# Altium footprint library ZPWL.PcbLib: 168 footprints (part 7 of 11)
Each footprint in its own frame and in the unit in brackets; x right, y up, seen from the top. Pads: shape width x height; smd on the part's side, far side on the other; paste and mask are expansions set on the pad; w line width, h text height; cw(c..) or ccw(c..) is an arc to the next point about the centre after c.
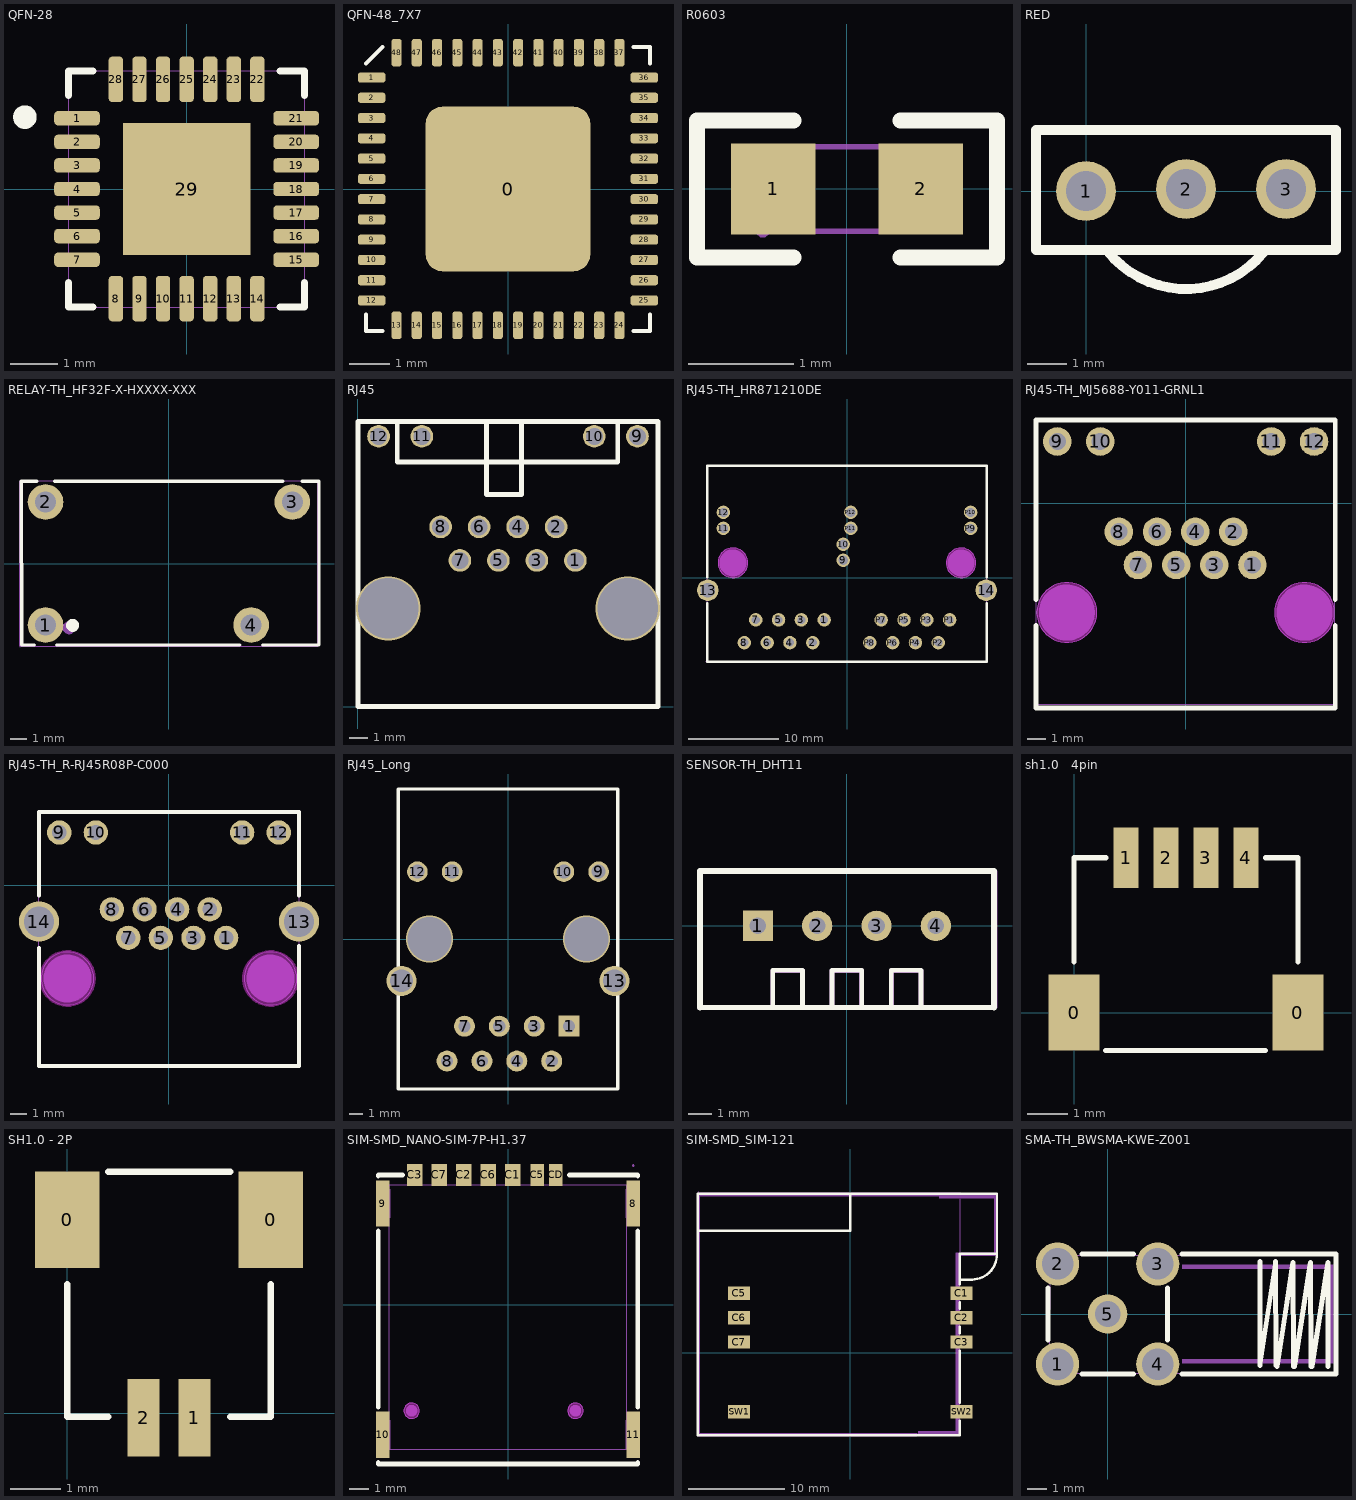
[diagram p6: the footprints below, top view; thin cyan lines are the x and y axes]

## QFN-28 [mil]
pads (29):
  rrect50% 38x12 smd mask+5: 1(-91.5,59.06) 2(-91.5,39.37) 3(-91.5,19.68) 4(-91.5,0) 5(-91.5,-19.68) 6(-91.5,-39.37) 7(-91.5,-59.06) 15(91.5,-59.06) 16(91.5,-39.37) 17(91.5,-19.68) 18(91.5,0) 19(91.5,19.68) 20(91.5,39.37) 21(91.5,59.06)
  rrect50% 12x38 smd mask+5: 8(-59.06,-91.5) 9(-39.37,-91.5) 10(-19.68,-91.5) 11(0,-91.5) 12(19.68,-91.5) 13(39.37,-91.5) 14(59.06,-91.5) 22(59.06,91.5) 23(39.37,91.5) 24(19.68,91.5) 25(0,91.5) 26(-19.68,91.5) 27(-39.37,91.5) 28(-59.06,91.5)
  rect 106.3x110.24 smd: 29(0,0)
Top Overlay:
  circle w9.84: c-135,60 r4.92
  lines w6: -98.5,-78.16 -98.5,-98.5 -78.16,-98.5 ; -98.5,78.16 -98.5,98.5 -78.16,98.5 ; 78.16,-98.5 98.5,-98.5 98.5,-78.16 ; 78.16,98.5 98.5,98.5 98.5,78.16
Mechanical 1:
  lines w0: -98.5,-98.5 -98.5,98.5 98.5,98.5 98.5,-98.5 -98.5,-98.5 ; -98.5,-65.06 -98.5,-53.06 -98.5,-65.06 ; -98.5,-45.37 -98.5,-33.37 -98.5,-45.37 ; -98.5,-25.68 -98.5,-13.69 -98.5,-25.68 ; -98.5,-6 -98.5,6 -98.5,-6 ; -98.5,13.69 -98.5,25.68 -98.5,13.69 ; -98.5,33.37 -98.5,45.37 -98.5,33.37 ; -98.5,53.06 -98.5,65.06 -98.5,53.06 ; -65.06,-98.5 -53.06,-98.5 -65.06,-98.5 ; -65.06,98.5 -53.06,98.5 -65.06,98.5 ; -45.37,-98.5 -33.37,-98.5 -45.37,-98.5 ; -45.37,98.5 -33.37,98.5 -45.37,98.5 ; -25.68,-98.5 -13.69,-98.5 -25.68,-98.5 ; -25.68,98.5 -13.69,98.5 -25.68,98.5 ; -6,-98.5 6,-98.5 -6,-98.5 ; -6,98.5 6,98.5 -6,98.5 ; 13.69,-98.5 25.68,-98.5 13.69,-98.5 ; 13.69,98.5 25.68,98.5 13.69,98.5 ; 33.37,-98.5 45.37,-98.5 33.37,-98.5 ; 33.37,98.5 45.37,98.5 33.37,98.5 ; 53.06,-98.5 65.06,-98.5 53.06,-98.5 ; 53.06,98.5 65.06,98.5 53.06,98.5 ; 98.5,-65.06 98.5,-53.06 98.5,-65.06 ; 98.5,-45.37 98.5,-33.37 98.5,-45.37 ; 98.5,-25.68 98.5,-13.69 98.5,-25.68 ; 98.5,-6 98.5,6 98.5,-6 ; 98.5,13.69 98.5,25.68 98.5,13.69 ; 98.5,33.37 98.5,45.37 98.5,33.37 ; 98.5,53.06 98.5,65.06 98.5,53.06
3D body "321.stp": height 35.43, standoff 0, extent -98.5,-98.5 98.35,98.35

## QFN-48_7X7 [mm]
pads (49):
  rrect20% 4.064x4.064 smd: 0(0,0)
  rrect50% 0.675x0.25 smd: 1(-3.363,2.75) 2(-3.363,2.25) 3(-3.363,1.75) 4(-3.363,1.25) 5(-3.363,0.75) 6(-3.363,0.25) 7(-3.363,-0.25) 8(-3.363,-0.75) 9(-3.363,-1.25) 10(-3.363,-1.75) 11(-3.363,-2.25) 12(-3.363,-2.75) 25(3.363,-2.75) 26(3.363,-2.25) 27(3.363,-1.75) 28(3.363,-1.25) 29(3.363,-0.75) 30(3.363,-0.25) 31(3.363,0.25) 32(3.363,0.75) 33(3.363,1.25) 34(3.363,1.75) 35(3.363,2.25) 36(3.363,2.75)
  rrect50% 0.25x0.675 smd: 13(-2.75,-3.363) 14(-2.25,-3.363) 15(-1.75,-3.363) 16(-1.25,-3.363) 17(-0.75,-3.363) 18(-0.25,-3.363) 19(0.25,-3.363) 20(0.75,-3.363) 21(1.25,-3.363) 22(1.75,-3.363) 23(2.25,-3.363) 24(2.75,-3.363) 37(2.75,3.363) 38(2.25,3.363) 39(1.75,3.363) 40(1.25,3.363) 41(0.75,3.363) 42(0.25,3.363) 43(-0.25,3.363) 44(-0.75,3.363) 45(-1.25,3.363) 46(-1.75,3.363) 47(-2.25,3.363) 48(-2.75,3.363)
Top Overlay:
  lines w0.1: -3.5,-3.1 -3.5,-3.5 -3.1,-3.5 ; -3.5,3.1 -3.1,3.5 ; 3.1,-3.5 3.5,-3.5 3.5,-3.1 ; 3.1,3.5 3.5,3.5 3.5,3.1
3D body: height 1, standoff 0.05, extent -3.5,-3.5 3.5,3.5

## R0603 [mm]
pads (2):
  rect 0.8x0.864 smd paste-100 mask+0.051: 1(-0.7,0) 2(0.7,0)
Top Overlay:
  lines w0.152: -0.51,-0.65 -1.424,-0.65 -1.424,0.65 -0.51,0.65 ; 0.51,-0.65 1.424,-0.65 1.424,0.65 0.51,0.65
Top Paste:
  region: 0.264,0.154 0.264,-0.122 0.538,-0.416 1.042,-0.416 1.106,-0.352 1.106,0.384 1.042,0.448 0.538,0.448
  region: -0.252,0.143 -0.252,-0.134 -0.526,-0.427 -1.029,-0.427 -1.093,-0.363 -1.093,0.373 -1.029,0.437 -0.526,0.437
Mechanical 6:
  lines w0.051: -0.8,-0.4 -0.8,0.4 0.8,0.4 0.8,-0.4 -0.8,-0.4
Mechanical 8:
  region: -0.74,-0.4 -0.74,-0.425 -0.775,-0.46 -0.825,-0.46 -0.86,-0.425 -0.86,-0.4 -0.86,-0.375 -0.825,-0.34 -0.775,-0.34 -0.74,-0.375 -0.74,-0.4
Mechanical 9:
  region: -0.5,-0.4 -0.8,-0.4 -0.8,0.4 -0.5,0.4
  region: 0.8,-0.4 0.5,-0.4 0.5,0.4 0.8,0.4
3D body "0603L.STEP": height 2.1, standoff 1.6, extent -0.811,-0.389 0.789,0.411

## RED [mil]
pads (3):
  round 60 hole 40: 1(0,0) 2(100,2) 3(200,2)
Top Overlay:
  lines w10: 20.81,-59.06 ccw(c100,2) 177.99,-60.59 ; -50,-59 250,-59 250,61 -50,61 -50,-59

## RELAY-TH_HF32F-X-HXXXX-XXX [mm]
pads (4):
  round 2.2 hole 1.3 paste+0 mask+0.05: 1(-7.62,-3.8) 2(-7.62,3.8) 3(7.62,3.8) 4(5.08,-3.8)
Top Overlay:
  circle w0.4: c-5.95,-3.82 r0.2
  lines w0.2: -9.11,-5.04 -8.313,-5.03 ; -9.091,-5.03 -9.12,5.08 -8.17,5.08 ; -7.07,5.08 7.024,5.08 ; -6.927,-5.03 4.387,-5.03 ; 5.773,-5.03 9.27,-5.03 9.27,5.08 8.216,5.08
Mechanical 6:
  circle w0.4: c-6.17,-3.97 r0.2
Mechanical 15:
  region: -9.14,-5.1 -9.14,-5.075 -9.175,-5.04 -9.225,-5.04 -9.26,-5.075 -9.26,-5.1 -9.26,-5.125 -9.225,-5.16 -9.175,-5.16 -9.14,-5.125
  region: -7.845,-3.585 -7.395,-3.585 -7.395,-4.035 -7.845,-4.035
  region: -7.845,4.015 -7.395,4.015 -7.395,3.565 -7.845,3.565
  region: 7.47,4.2 7.77,4.2 7.77,3.4 7.47,3.4
  region: 4.93,-3.4 5.23,-3.4 5.23,-4.2 4.93,-4.2
  lines w0.051: -9.2,-5.1 -9.2,5.1 9.2,5.1 9.2,-5.1 -9.2,-5.1
3D body "HF32F.STEP": height 17.3, standoff -1.9, extent -9.2,-5.13 9.2,5.08

## RJ45 [mm]
pads (12):
  round 1.2 hole 0.9: 1(11.545,7.765) 2(10.525,9.545) 3(9.505,7.765) 4(8.485,9.545) 5(7.465,7.765) 6(6.445,9.545) 7(5.425,7.765) 8(4.405,9.545) 9(14.835,14.345) 10(12.547,14.345) 11(3.407,14.345) 12(1.115,14.345)
via 1.625,5.225 diameter 3.4 hole 3.2
via 14.325,5.225 diameter 3.4 hole 3.2
Top Overlay:
  lines w0.254: 2.108,15.088 2.108,12.979 13.792,12.979 13.792,15.088 ; 6.833,15.062 6.833,11.252 8.687,11.252 8.687,15.125 ; 0.025,0.025 0.025,15.125 15.925,15.125 15.925,0.025 0.025,0.025

## RJ45-TH_HR871210DE [mm]
pads (26):
  round 1.5 hole 0.9 paste+0.051: 1(-2.54,-4.715) 2(-3.81,-7.255) 3(-5.08,-4.715) 4(-6.35,-7.255) 5(-7.62,-4.715) 6(-8.89,-7.255) 7(-10.16,-4.715) 8(-11.43,-7.255) P1(11.43,-4.715) P2(10.16,-7.255) P3(8.89,-4.715) P4(7.62,-7.255) P5(6.35,-4.715) P6(5.08,-7.255) P7(3.81,-4.715) P8(2.54,-7.255)
  round 1.5 hole 1.02 paste+0.051: 9(-0.425,1.915) 10(-0.425,3.695) 11(-13.765,5.475) 12(-13.765,7.255) P9(13.765,5.475) P10(13.765,7.255) P11(0.425,5.475) P12(0.425,7.255)
  round 2.4 hole 1.6 paste+0.051: 13(-15.5,-1.415) 14(15.5,-1.415)
Top Overlay:
  lines w0.254: -15.55,-2.845 -15.55,-9.365 15.55,-9.365 15.55,-2.845 ; -15.55,0.015 -15.55,12.435 15.55,12.435 15.55,0.015
Keep-Out Layer:
  circle w0.003: c-12.7,1.635 r1.65
  circle w0.003: c12.7,1.635 r1.65
  region: -11.05,1.635 -11.05,1.472 -11.114,1.154 -11.238,0.853 -11.418,0.583 -11.648,0.353 -11.919,0.173 -12.219,0.048 -12.538,-0.015 -12.863,-0.015 -13.181,0.048 -13.482,0.173 -13.752,0.353 -13.982,0.583 -14.162,0.853 -14.287,1.154 -14.35,1.472 -14.35,1.635 -14.35,1.798 -14.287,2.116 -14.162,2.417 -13.982,2.687 -13.752,2.917 -13.482,3.097 -13.181,3.222 -12.863,3.285 -12.538,3.285 -12.219,3.222 -11.919,3.097 -11.648,2.917 -11.418,2.687 -11.238,2.417 -11.114,2.116 -11.05,1.798
  region: -11.05,1.635 -11.05,1.472 -11.114,1.154 -11.238,0.853 -11.418,0.583 -11.648,0.353 -11.919,0.173 -12.219,0.048 -12.538,-0.015 -12.863,-0.015 -13.181,0.048 -13.482,0.173 -13.752,0.353 -13.982,0.583 -14.162,0.853 -14.287,1.154 -14.35,1.472 -14.35,1.635 -14.35,1.798 -14.287,2.116 -14.162,2.417 -13.982,2.687 -13.752,2.917 -13.482,3.097 -13.181,3.222 -12.863,3.285 -12.538,3.285 -12.219,3.222 -11.919,3.097 -11.648,2.917 -11.418,2.687 -11.238,2.417 -11.114,2.116 -11.05,1.798
  region: 14.35,1.635 14.35,1.472 14.286,1.154 14.162,0.853 13.982,0.583 13.752,0.353 13.481,0.173 13.181,0.048 12.862,-0.015 12.537,-0.015 12.219,0.048 11.918,0.173 11.648,0.353 11.418,0.583 11.238,0.853 11.113,1.154 11.05,1.472 11.05,1.635 11.05,1.798 11.113,2.116 11.238,2.417 11.418,2.687 11.648,2.917 11.918,3.097 12.219,3.222 12.537,3.285 12.862,3.285 13.181,3.222 13.481,3.097 13.752,2.917 13.982,2.687 14.162,2.417 14.286,2.116 14.35,1.798
  region: 14.35,1.635 14.35,1.472 14.286,1.154 14.162,0.853 13.982,0.583 13.752,0.353 13.481,0.173 13.181,0.048 12.862,-0.015 12.537,-0.015 12.219,0.048 11.918,0.173 11.648,0.353 11.418,0.583 11.238,0.853 11.113,1.154 11.05,1.472 11.05,1.635 11.05,1.798 11.113,2.116 11.238,2.417 11.418,2.687 11.648,2.917 11.918,3.097 12.219,3.222 12.537,3.285 12.862,3.285 13.181,3.222 13.481,3.097 13.752,2.917 13.982,2.687 14.162,2.417 14.286,2.116 14.35,1.798
Mechanical 1:
  circle w0.003: c-12.7,1.635 r1.65
  circle w0.003: c12.7,1.635 r1.65
Mechanical 2:
  circle w1.5: c12.7,1.635 r0.75
  circle w1.5: c-12.7,1.635 r0.75
Mechanical 6:
  lines w0.051: -15.55,-9.365 -15.55,12.435 15.55,12.435 15.55,-9.365 -15.55,-9.365
Mechanical 8:
  region: -15.59,-9.365 -15.59,-9.39 -15.625,-9.425 -15.675,-9.425 -15.71,-9.39 -15.71,-9.365 -15.71,-9.34 -15.675,-9.305 -15.625,-9.305 -15.59,-9.34
Mechanical 9:
  region: 2.315,-7.08 2.765,-7.08 2.765,-7.43 2.315,-7.43
  region: 3.585,-4.54 4.035,-4.54 4.035,-4.89 3.585,-4.89
  region: 4.855,-7.08 5.305,-7.08 5.305,-7.43 4.855,-7.43
  region: 6.125,-4.54 6.575,-4.54 6.575,-4.89 6.125,-4.89
  region: 7.395,-7.08 7.845,-7.08 7.845,-7.43 7.395,-7.43
  region: 8.665,-4.54 9.115,-4.54 9.115,-4.89 8.665,-4.89
  region: 9.935,-7.08 10.385,-7.08 10.385,-7.43 9.935,-7.43
  region: 11.205,-4.54 11.655,-4.54 11.655,-4.89 11.205,-4.89
  region: -11.655,-7.08 -11.205,-7.08 -11.205,-7.43 -11.655,-7.43
  region: -10.385,-4.54 -9.935,-4.54 -9.935,-4.89 -10.385,-4.89
  region: -9.115,-7.08 -8.665,-7.08 -8.665,-7.43 -9.115,-7.43
  region: -7.845,-4.54 -7.395,-4.54 -7.395,-4.89 -7.845,-4.89
  region: -6.575,-7.08 -6.125,-7.08 -6.125,-7.43 -6.575,-7.43
  region: -5.305,-4.54 -4.855,-4.54 -4.855,-4.89 -5.305,-4.89
  region: -4.035,-7.08 -3.585,-7.08 -3.585,-7.43 -4.035,-7.43
  region: -2.765,-4.54 -2.315,-4.54 -2.315,-4.89 -2.765,-4.89
  region: -15.65,-0.815 -15.35,-0.815 -15.35,-2.015 -15.65,-2.015
  region: 15.35,-0.815 15.65,-0.815 15.65,-2.015 15.35,-2.015
  region: -0.745,2.235 -0.105,2.235 -0.105,1.595 -0.745,1.595
  region: -0.745,4.015 -0.105,4.015 -0.105,3.375 -0.745,3.375
  region: 0.105,5.795 0.745,5.795 0.745,5.155 0.105,5.155
  region: 0.105,7.575 0.745,7.575 0.745,6.935 0.105,6.935
  region: -14.085,5.795 -13.445,5.795 -13.445,5.155 -14.085,5.155
  region: -14.085,7.575 -13.445,7.575 -13.445,6.935 -14.085,6.935
  region: 13.445,7.575 14.085,7.575 14.085,6.935 13.445,6.935
  region: 13.445,5.795 14.085,5.795 14.085,5.155 13.445,5.155
3D body "双网口带变压器.STEP": height 13.86, standoff -3.2, extent -15.8,-9.185 15.5,13.015

## RJ45-TH_MJ5688-Y011-GRNL1 [mil]
pads (12):
  round 60 hole 36 paste+0 mask+1.97: 1(140.55,-129.92) 2(100.39,-59.84) 3(60.23,-129.92) 4(20.08,-59.84) 5(-20.08,-129.92) 6(-60.24,-59.84) 7(-100.39,-129.92) 8(-140.55,-59.84) 9(-270.08,129.92) 10(-179.92,129.92) 11(179.92,129.92) 12(270.08,129.92)
Top Overlay:
  lines w10: -314.96,-257.39 -314.96,-430.72 314.96,-430.72 ; -314.96,-202.45 -314.96,175 315,175 315,-202.54 ; 315,-430.72 315,-257.3
Keep-Out Layer:
  circle w0.1: c-250,-229.92 r62.99
  circle w0.1: c250,-229.92 r62.99
  region: -187.01,-229.92 -187.01,-236.12 -189.43,-248.29 -194.18,-259.76 -201.07,-270.07 -209.84,-278.85 -220.16,-285.74 -231.63,-290.49 -243.8,-292.91 -256.2,-292.91 -268.37,-290.49 -279.84,-285.74 -290.15,-278.85 -298.93,-270.07 -305.82,-259.76 -310.57,-248.29 -312.99,-236.12 -312.99,-229.92 -312.99,-223.72 -310.57,-211.55 -305.82,-200.08 -298.93,-189.76 -290.15,-180.99 -279.84,-174.1 -268.37,-169.35 -256.2,-166.93 -243.8,-166.93 -231.63,-169.35 -220.16,-174.1 -209.84,-180.99 -201.07,-189.76 -194.18,-200.08 -189.43,-211.55 -187.01,-223.72
  region: -187.01,-229.92 -187.01,-236.12 -189.43,-248.29 -194.18,-259.76 -201.07,-270.07 -209.84,-278.85 -220.16,-285.74 -231.63,-290.49 -243.8,-292.91 -256.2,-292.91 -268.37,-290.49 -279.84,-285.74 -290.15,-278.85 -298.93,-270.07 -305.82,-259.76 -310.57,-248.29 -312.99,-236.12 -312.99,-229.92 -312.99,-223.72 -310.57,-211.55 -305.82,-200.08 -298.93,-189.76 -290.15,-180.99 -279.84,-174.1 -268.37,-169.35 -256.2,-166.93 -243.8,-166.93 -231.63,-169.35 -220.16,-174.1 -209.84,-180.99 -201.07,-189.76 -194.18,-200.08 -189.43,-211.55 -187.01,-223.72
  region: 312.99,-229.92 312.99,-236.12 310.57,-248.29 305.82,-259.76 298.93,-270.07 290.15,-278.85 279.84,-285.74 268.37,-290.49 256.2,-292.91 243.8,-292.91 231.63,-290.49 220.16,-285.74 209.84,-278.85 201.07,-270.07 194.18,-259.76 189.43,-248.29 187.01,-236.12 187.01,-229.92 187.01,-223.72 189.43,-211.55 194.18,-200.08 201.07,-189.76 209.84,-180.99 220.16,-174.1 231.63,-169.35 243.8,-166.93 256.2,-166.93 268.37,-169.35 279.84,-174.1 290.15,-180.99 298.93,-189.76 305.82,-200.08 310.57,-211.55 312.99,-223.72
  region: 312.99,-229.92 312.99,-236.12 310.57,-248.29 305.82,-259.76 298.93,-270.07 290.15,-278.85 279.84,-285.74 268.37,-290.49 256.2,-292.91 243.8,-292.91 231.63,-290.49 220.16,-285.74 209.84,-278.85 201.07,-270.07 194.18,-259.76 189.43,-248.29 187.01,-236.12 187.01,-229.92 187.01,-223.72 189.43,-211.55 194.18,-200.08 201.07,-189.76 209.84,-180.99 220.16,-174.1 231.63,-169.35 243.8,-166.93 256.2,-166.93 268.37,-169.35 279.84,-174.1 290.15,-180.99 298.93,-189.76 305.82,-200.08 310.57,-211.55 312.99,-223.72
Mechanical 1:
  circle w0.1: c-250,-229.92 r62.99
  circle w0.1: c250,-229.92 r62.99
Mechanical 2:
  circle w59.05: c250,-229.92 r29.53
  circle w59.05: c-250,-229.92 r29.53
Mechanical 6:
  lines w2: -313.98,-423.42 -313.98,175 313.97,175 313.97,-423.42 -313.98,-423.42
Mechanical 8:
  region: 316.34,-423.42 316.34,-424.4 314.95,-425.78 313,-425.78 311.61,-424.4 311.61,-423.42 311.61,-422.44 313,-421.06 314.95,-421.06 316.34,-422.44
Mechanical 9:
  region: 260.24,139.76 279.92,139.76 279.92,120.08 260.24,120.08
  region: 170.08,139.76 189.76,139.76 189.76,120.08 170.08,120.08
  region: -189.76,139.76 -170.08,139.76 -170.08,120.08 -189.76,120.08
  region: -279.92,139.76 -260.24,139.76 -260.24,120.08 -279.92,120.08
  region: -150.39,-50 -130.71,-50 -130.71,-69.68 -150.39,-69.68
  region: -110.23,-120.08 -90.55,-120.08 -90.55,-139.76 -110.23,-139.76
  region: -70.08,-50 -50.4,-50 -50.4,-69.68 -70.08,-69.68
  region: -29.92,-120.08 -10.24,-120.08 -10.24,-139.76 -29.92,-139.76
  region: 10.24,-50 29.92,-50 29.92,-69.68 10.24,-69.68
  region: 50.4,-120.08 70.08,-120.08 70.08,-139.76 50.4,-139.76
  region: 90.55,-50 110.23,-50 110.23,-69.68 90.55,-69.68
  region: 130.71,-120.08 150.39,-120.08 150.39,-139.76 130.71,-139.76
3D body "网口连接器 黄色无屏蔽.STEP": height 513.78, standoff -129.92, extent -313.98,-450 313.98,168.03

## RJ45-TH_R-RJ45R08P-C000 [mil]
pads (14):
  round 60 hole 36: 1(140.55,-129.72) 2(100.39,-59.64) 3(60.24,-129.72) 4(20.08,-59.64) 5(-20.08,-129.72) 6(-60.24,-59.64) 7(-100.39,-129.72) 8(-140.55,-59.64) 9(-270.08,129.73) 10(-179.92,129.73) 11(179.92,129.73) 12(270.08,129.73)
  round 98.42 hole 74.8: 13(320.08,-89.56) 14(-320.08,-89.56)
Top Overlay:
  lines w10: -320.08,-25 -320.08,180 320.08,180 320.08,-25 ; -320,-155 -320,-445 320,-445 320,-150
Keep-Out Layer:
  board cut-out: -185.04,-229.73 -185.04,-223.33 -187.53,-210.78 -192.43,-198.95 -199.54,-188.31 -208.59,-179.27 -219.23,-172.16 -231.05,-167.26 -243.6,-164.76 -256.4,-164.76 -268.95,-167.26 -280.77,-172.15 -291.41,-179.26 -300.46,-188.31 -307.57,-198.95 -312.47,-210.77 -314.96,-223.32 -314.96,-229.72 -314.96,-236.12 -312.47,-248.67 -307.57,-260.49 -300.46,-271.13 -291.41,-280.18 -280.77,-287.29 -268.95,-292.19 -256.4,-294.68 -243.6,-294.69 -231.05,-292.19 -219.23,-287.29 -208.59,-280.18 -199.54,-271.14 -192.43,-260.5 -187.54,-248.67 -185.04,-236.12 -185.04,-229.73
  board cut-out: 314.96,-229.73 314.96,-223.33 312.47,-210.78 307.57,-198.95 300.46,-188.31 291.41,-179.27 280.77,-172.16 268.95,-167.26 256.4,-164.76 243.6,-164.76 231.05,-167.26 219.23,-172.15 208.59,-179.26 199.54,-188.31 192.43,-198.95 187.53,-210.77 185.04,-223.32 185.04,-229.72 185.04,-236.12 187.53,-248.67 192.43,-260.49 199.54,-271.13 208.59,-280.18 219.23,-287.29 231.05,-292.19 243.6,-294.68 256.4,-294.69 268.95,-292.19 280.77,-287.29 291.41,-280.18 300.46,-271.14 307.57,-260.5 312.46,-248.67 314.96,-236.12 314.96,-229.73
Mechanical 1:
  circle w1: c-250,-229.72 r64.96
  circle w1: c250,-229.72 r64.96
Mechanical 6:
  circle w59.05: c250,-229.72 r29.53
  circle w59.05: c-250,-229.72 r29.53
Mechanical 15:
  region: 322.44,-442.33 322.42,-441.37 321.04,-440.02 319.12,-440.02 317.74,-441.36 317.72,-442.32 317.74,-443.28 319.12,-444.62 321.04,-444.63 322.41,-443.29 322.44,-442.33
  region: -280.12,139.76 -260.04,139.76 -260.04,119.69 -280.12,119.69
  region: -189.96,139.76 -169.88,139.76 -169.88,119.69 -189.96,119.69
  region: 169.88,139.76 189.96,139.76 189.96,119.69 169.88,119.69
  region: 260.04,139.76 280.12,139.76 280.12,119.69 260.04,119.69
  region: 308.27,-119.09 308.27,-60.04 320.08,-60.04 320.08,-119.09
  region: -320.08,-119.09 -320.08,-60.04 -308.27,-60.04 -308.27,-119.09
  region: 130.71,-119.88 150.39,-119.88 150.39,-139.57 130.71,-139.57
  region: 90.55,-49.8 110.23,-49.8 110.23,-69.49 90.55,-69.49
  region: 50.4,-119.88 70.08,-119.88 70.08,-139.57 50.4,-139.57
  region: 10.24,-49.8 29.92,-49.8 29.92,-69.49 10.24,-69.49
  region: -29.92,-119.88 -10.24,-119.88 -10.24,-139.57 -29.92,-139.57
  region: -70.08,-49.8 -50.4,-49.8 -50.4,-69.49 -70.08,-69.49
  region: -110.23,-119.88 -90.55,-119.88 -90.55,-139.57 -110.23,-139.57
  region: -150.39,-49.8 -130.71,-49.8 -130.71,-69.49 -150.39,-69.49
  lines w2: -320.08,-442.33 -320.08,177.75 320.08,177.75 320.08,-442.33 -320.08,-442.33
Multi-Layer keep-out:
  circle w10: c-250,-229.72 r64.96
  circle w10: c250,-229.72 r64.96

## RJ45_Long [mm]
pads (14):
  rect 1.524x1.524 hole 0.889: 1(4.45,-6.35)
  round 1.524 hole 0.889: 2(3.18,-8.89) 3(1.91,-6.35) 4(0.64,-8.89) 5(-0.63,-6.35) 6(-1.9,-8.89) 7(-3.17,-6.35) 8(-4.44,-8.89)
  round 1.5 hole 1.02: 9(6.6,4.9) 10(4.064,4.9) 11(-4.064,4.9) 12(-6.6,4.9)
  round 2.2 hole 1.65: 13(7.75,-3.048) 14(-7.75,-3.048)
via -5.714,0 diameter 3.4 hole 3.2
via 5.716,0 diameter 3.4 hole 3.2
Top Overlay:
  lines w0.254: -8,-10.922 0,-10.922 8,-10.922 8,10.922 0,10.922 -8,10.922 -8,-10.922

## SENSOR-TH_DHT11 [mil]
pads (4):
  rect 51x51 hole 28: 1(-150,0)
  round 51 hole 28: 2(-50,0) 3(50,0) 4(150,0)
Top Overlay:
  lines w8: -248.4,-137.8 150,-137.8 248.4,-137.8 ; -125,-137.8 -125,-75 -75,-75 -75,-137.8 ; -25,-137.8 -25,-75 25,-75 25,-137.8 ; 75,-137.8 75,-75 125,-75 125,-137.8
  lines w10: -248.03,-137.8 -248.03,92.5 248.03,92.5 248.4,92.14 248.4,-137.8
Mechanical 6:
  region: -121.26,-133.87 -128.74,-133.87 -128.74,-74.03 -125.98,-71.27 -74.02,-71.27 -71.26,-74.03 -71.26,-133.48 -78.74,-133.48 -78.74,-79.15 -79.13,-78.75 -120.87,-78.75 -121.26,-79.15
  region: -21.25,-133.87 -28.73,-133.87 -28.73,-74.03 -25.98,-71.27 25.99,-71.27 28.75,-74.03 28.75,-133.48 21.27,-133.48 21.27,-79.15 20.87,-78.75 -20.86,-78.75 -21.25,-79.15
  region: 78.74,-133.87 71.26,-133.87 71.26,-74.03 74.02,-71.27 125.98,-71.27 128.74,-74.03 128.74,-133.48 121.26,-133.48 121.26,-79.15 120.87,-78.75 79.14,-78.75 78.74,-79.15
  region: -243.31,-133.87 -243.31,87.78 243.7,87.78 243.7,-133.87 -237.4,-133.87 -237.4,-141.75 249.61,-141.75 253.15,-138.2 253.15,92.9 248.82,97.23 -248.82,97.23 -252.75,93.29 -252.75,-139.38 -250.39,-141.75 -237.79,-141.75 -237.79,-133.87
Mechanical 15:
  region: 159.84,-5.91 140.16,-5.91 140.16,5.91 159.84,5.91
  region: 59.84,-5.91 40.16,-5.91 40.16,5.91 59.84,5.91
  region: -40.16,-5.91 -59.84,-5.91 -59.84,5.91 -40.16,5.91
  region: -140.16,-5.91 -159.84,-5.91 -159.84,5.91 -140.16,5.91
  region: -245.67,-138.59 -245.67,-137.61 -247.05,-136.23 -249.01,-136.23 -250.39,-137.61 -250.39,-138.59 -250.39,-139.57 -249.01,-140.95 -247.05,-140.95 -245.67,-139.57 -245.67,-138.59
  lines w2: -248.03,-139.77 -248.03,92.51 248.03,92.51 248.03,-139.77 -248.03,-139.77

## sh1.0   4pin [mm] "SMD,P=1mm,pin=4"
pads (6):
  rect 1.27x1.905 smd: 0(0,0) 0(5.6,0)
  rect 0.635x1.524 smd: 1(1.3,3.876) 2(2.3,3.876) 3(3.3,3.876) 4(4.3,3.876)
Top Overlay:
  lines w0.127: 0,1.27 0,3.876 0.792,3.876 ; 0.792,-0.95 4.792,-0.95 ; 4.792,3.876 5.6,3.876 5.6,1.27

## SH1.0 - 2P [mm]
pads (4):
  rect 1.27x1.905 smd: 0(0,3.81) 0(4,3.81)
  rect 0.635x1.524 smd: 1(2.5,-0.088) 2(1.5,-0.088)
Top Overlay:
  lines w0.127: 0,2.54 0,-0.066 0.808,-0.066 ; 0.808,4.76 3.208,4.76 ; 3.208,-0.066 4,-0.066 4,2.54

## SIM-SMD_NANO-SIM-7P-H1.37 [mm]
pads (11):
  rect 0.7x2.4 smd paste+0 mask+0.05: 8(6.5,5.26) 9(-6.5,5.26) 10(-6.5,-6.74) 11(6.5,-6.74)
  rect 0.8x1.138 smd paste+0 mask+0.05: C1(0.25,6.74) C2(-2.29,6.74) C3(-4.83,6.74) C6(-1.02,6.74) C7(-3.56,6.74)
  rect 0.7x1.138 smd paste+0 mask+0.05: C5(1.52,6.74) CD(2.47,6.74)
Top Overlay:
  lines w0.254: -6.731,-8.172 -6.731,-8.255 6.731,-8.255 6.731,-8.172 ; -6.731,-5.309 -6.731,3.828 ; -6.731,6.691 -6.731,6.731 -5.461,6.731 ; 3.175,6.731 6.731,6.731 6.731,6.691 ; 6.731,-5.309 6.731,3.828
Keep-Out Layer:
  circle w0.003: c3.5,-5.49 r0.4
  circle w0.003: c-5,-5.49 r0.4
  region: 3.9,-5.49 3.9,-5.57 3.839,-5.717 3.727,-5.83 3.58,-5.89 3.42,-5.89 3.273,-5.83 3.161,-5.717 3.1,-5.57 3.1,-5.49 3.1,-5.411 3.161,-5.264 3.273,-5.151 3.42,-5.09 3.58,-5.09 3.727,-5.151 3.839,-5.264 3.9,-5.411
  region: 3.9,-5.49 3.9,-5.57 3.839,-5.717 3.727,-5.83 3.58,-5.89 3.42,-5.89 3.273,-5.83 3.161,-5.717 3.1,-5.57 3.1,-5.49 3.1,-5.411 3.161,-5.264 3.273,-5.151 3.42,-5.09 3.58,-5.09 3.727,-5.151 3.839,-5.264 3.9,-5.411
  region: -4.6,-5.49 -4.6,-5.57 -4.661,-5.717 -4.773,-5.83 -4.92,-5.89 -5.079,-5.89 -5.226,-5.83 -5.339,-5.717 -5.4,-5.57 -5.4,-5.49 -5.4,-5.411 -5.339,-5.264 -5.226,-5.151 -5.079,-5.09 -4.92,-5.09 -4.773,-5.151 -4.661,-5.264 -4.6,-5.411
  region: -4.6,-5.49 -4.6,-5.57 -4.661,-5.717 -4.773,-5.83 -4.92,-5.89 -5.079,-5.89 -5.226,-5.83 -5.339,-5.717 -5.4,-5.57 -5.4,-5.49 -5.4,-5.411 -5.339,-5.264 -5.226,-5.151 -5.079,-5.09 -4.92,-5.09 -4.773,-5.151 -4.661,-5.264 -4.6,-5.411
Mechanical 1:
  circle w0.003: c3.5,-5.49 r0.4
  circle w0.003: c-5,-5.49 r0.4
Mechanical 2:
  circle w0.3: c3.5,-5.49 r0.15
  circle w0.3: c-5,-5.49 r0.15
Mechanical 6:
  lines w0.051: -6.15,-7.491 6.15,-7.491 6.15,6.229 -6.15,6.229 -6.15,-7.491
Mechanical 7:
  region: -4.63,7.23 -5.03,7.23 -5.03,6.22 -4.63,6.22
  region: -3.36,7.23 -3.76,7.23 -3.76,6.22 -3.36,6.22
  region: -2.09,7.23 -2.49,7.23 -2.49,6.22 -2.09,6.22
  region: -0.82,7.23 -1.22,7.23 -1.22,6.22 -0.82,6.22
  region: 0.45,7.23 0.05,7.23 0.05,6.22 0.45,6.22
  region: 1.72,7.23 1.32,7.23 1.32,6.22 1.72,6.22
  region: 2.67,7.23 2.27,7.23 2.27,6.22 2.67,6.22
Mechanical 8:
  region: 6.56,7.23 6.56,7.205 6.525,7.17 6.475,7.17 6.44,7.205 6.44,7.23 6.44,7.255 6.475,7.29 6.525,7.29 6.56,7.255
Mechanical 9:
  region: -6.5,6.01 -6.1,6.01 -6.1,4.51 -6.5,4.51
  region: -6.5,-5.99 -6.1,-5.99 -6.1,-7.49 -6.5,-7.49
  region: 6.1,-5.99 6.5,-5.99 6.5,-7.49 6.1,-7.49
  region: 6.1,6.01 6.5,6.01 6.5,4.51 6.1,4.51
  region: 0.05,7.229 0.45,7.229 0.45,6.529 0.05,6.529
  region: -2.49,7.229 -2.09,7.229 -2.09,6.529 -2.49,6.529
  region: -5.03,7.229 -4.63,7.229 -4.63,6.529 -5.03,6.529
  region: 1.32,7.229 1.72,7.229 1.72,6.529 1.32,6.529
  region: -1.22,7.229 -0.82,7.229 -0.82,6.529 -1.22,6.529
  region: -3.76,7.229 -3.36,7.229 -3.36,6.529 -3.76,6.529
  region: 2.27,7.229 2.67,7.229 2.67,6.529 2.27,6.529
3D body "SIM卡自弹座.STEP": height 1.45, standoff -0.3, extent -6.436,-7.793 6.604,6.777

## SIM-SMD_SIM-121 [mm]
pads (8):
  rect 2.3x1.4 smd paste+0 mask+0.051: C1(11.6,6.185) C2(11.6,3.645) C3(11.6,1.105) C5(-11.6,6.185) C6(-11.6,3.645) C7(-11.6,1.105) SW1(-11.6,-6.185) SW2(11.6,-6.185)
Top Overlay:
  lines w0.254: -15.9,12.7 0,12.7 0,16.565 ; -15.7,-8.599 11.4,-8.599 11.4,-7.116 ; -15.449,-8.6 -15.9,-8.6 -15.9,16.565 -15.7,16.565 15.3,16.565 15.3,10.3 ; 11.4,-5.254 11.4,0.174 ; 11.4,2.036 11.4,2.714 ; 11.4,4.576 11.4,5.254 ; 11.4,7.116 11.4,10.3 15.3,10.3 ; 11.43,7.62 12.7,7.62 ccw(c12.66,10.26) 15.3,10.3
Mechanical 6:
  region: 9.2,16.6 -15.9,16.6 -16,16.5 -16,-8.6 -15.9,-8.7 6.9,-8.7 7,-8.6 7,-8.4 -15.7,-8.4 -15.7,16.3 9.2,16.3
  region: 9.3,16.6 15.3,16.6 15.3,10.1 11.4,10.1 11.4,8.1 11.4,-8.6 7.1,-8.6 7.1,-8.2 11,-8.2 11,8.5 11,10.4 15,10.4 15,16.1 9.3,16.1 9.3,16.3
Mechanical 15:
  region: 11.3,5.785 11.3,6.585 12.3,6.585 12.3,5.785
  region: 11.3,3.245 11.3,4.045 12.3,4.045 12.3,3.245
  region: 11.3,0.705 11.3,1.505 12.3,1.505 12.3,0.705
  region: 11.3,-6.585 11.3,-5.785 12.3,-5.785 12.3,-6.585
  region: -12.3,-6.585 -12.3,-5.785 -11.3,-5.785 -11.3,-6.585
  region: -12.3,0.705 -12.3,1.505 -11.3,1.505 -11.3,0.705
  region: -12.3,3.245 -12.3,4.045 -11.3,4.045 -11.3,3.245
  region: -12.3,5.785 -12.3,6.585 -11.3,6.585 -11.3,5.785
  region: -15.76,16.7 -15.76,16.725 -15.795,16.76 -15.845,16.76 -15.88,16.725 -15.88,16.7 -15.88,16.675 -15.845,16.64 -15.795,16.64 -15.76,16.675
  lines w0.051: -15.82,-8.58 -15.82,16.66 11.4,16.66 11.4,10.3 11.4,-8.6 -15.82,-8.58
3D body "SIM-SMD.STEP": height 3.75, standoff 0.05, extent -17.91,-8.623 15.393,16.377

## SMA-TH_BWSMA-KWE-Z001 [mm]
pads (5):
  round 2.2 hole 1.6 paste+0.051: 1(-2.55,-2.55) 2(-2.55,2.55) 3(2.55,2.55)
  round 2.2 hole 1.6 copper offset 0,0 paste+0.051: 4(2.55,-2.55)
  round 2 hole 1.3 paste+0.051: 5(0,0)
Top Overlay:
  lines w0.254: -3.048,-1.316 -3.048,1.316 ; -1.316,-3.048 1.316,-3.048 ; -1.316,3.048 1.316,3.048 ; 3.048,-1.316 3.048,1.316 ; 3.784,-3.048 11.63,-3.048 ; 3.784,3.048 11.6,3.048 ; 7.747,2.667 7.747,-2.633 8.56,2.667 8.566,-2.633 ; 8.636,-2.667 9.449,2.633 9.455,-2.667 ; 9.525,-2.667 10.338,2.633 10.344,-2.667 ; 10.414,-2.667 11.227,2.633 11.233,-2.667 ; 11.63,-3 11.63,-2.62 11.63,2.68 11.63,3.048
Mechanical 2:
  region: 3.8,2.5 11.5,2.5 11.5,2.3 3.8,2.3
  region: 3.8,-2.5 11.5,-2.5 11.5,-2.3 3.8,-2.3
  region: 11.5,2.3 11.5,-2.3 11.3,-2.3 11.3,2.3
Mechanical 6:
  lines w0.051: -2.941,-3.017 11.591,-3.017 11.591,2.996 -2.932,2.996 -2.941,-2.538 -2.941,-3.017
Mechanical 8:
  region: -2.94,-3.017 -2.94,-3.042 -2.975,-3.077 -3.025,-3.077 -3.06,-3.042 -3.06,-3.017 -3.06,-2.992 -3.025,-2.957 -2.975,-2.957 -2.94,-2.992
Mechanical 9:
  region: 0.45,0 0.45,-0.089 0.381,-0.255 0.255,-0.381 0.089,-0.45 -0.09,-0.45 -0.255,-0.381 -0.382,-0.255 -0.45,-0.089 -0.45,0 -0.45,0.09 -0.382,0.255 -0.255,0.382 -0.09,0.45 0.089,0.45 0.255,0.382 0.381,0.255 0.45,0.09
  region: -3,3 -2.1,3 -2.1,2.1 -3,2.1
  region: -3,-2.1 -2.1,-2.1 -2.1,-3 -3,-3
  region: 2.1,-2.1 3,-2.1 3,-3 2.1,-3
  region: 2.1,3 3,3 3,2.1 2.1,2.1
3D body "SMA天线座.STEP": height 9.68, standoff -3.5, extent -2.961,-3.119 11.539,3.228